# EAGLE library part 1X10_HEADER (library CONNECTORs)
A 1 row, 10 column, 12 pin 0.1" header.
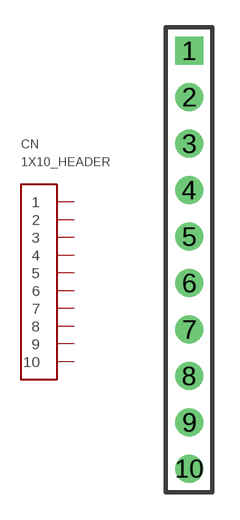
[diagram p20: symbol with the pads of 10PIN_HEADER; footprint 10PIN_HEADER]

Designator prefix CN

## 1X10_HEADER  [10PIN_HEADER]
1  1
2  2
3  3
4  4
5  5
6  6
7  7
8  8
9  9
10  10

## Footprint 10PIN_HEADER (pad centres in mm)
drill 1 pad 1.5 square: 1 0,11.43
drill 1 pad 1.5: 2 0,8.89; 3 0,6.35; 4 0,3.81; 5 0,1.27; 6 0,-1.27; 7 0,-3.81; 8 0,-6.35; 9 0,-8.89; 10 0,-11.43